# Altium footprint library PcbLib1.PcbLib: 19 footprints (part 1 of 2)
Each footprint in its own frame and in the unit in brackets; x right, y up, seen from the top. Pads: shape width x height; smd on the part's side, far side on the other; paste and mask are expansions set on the pad; w line width, h text height; cw(c..) or ccw(c..) is an arc to the next point about the centre after c.
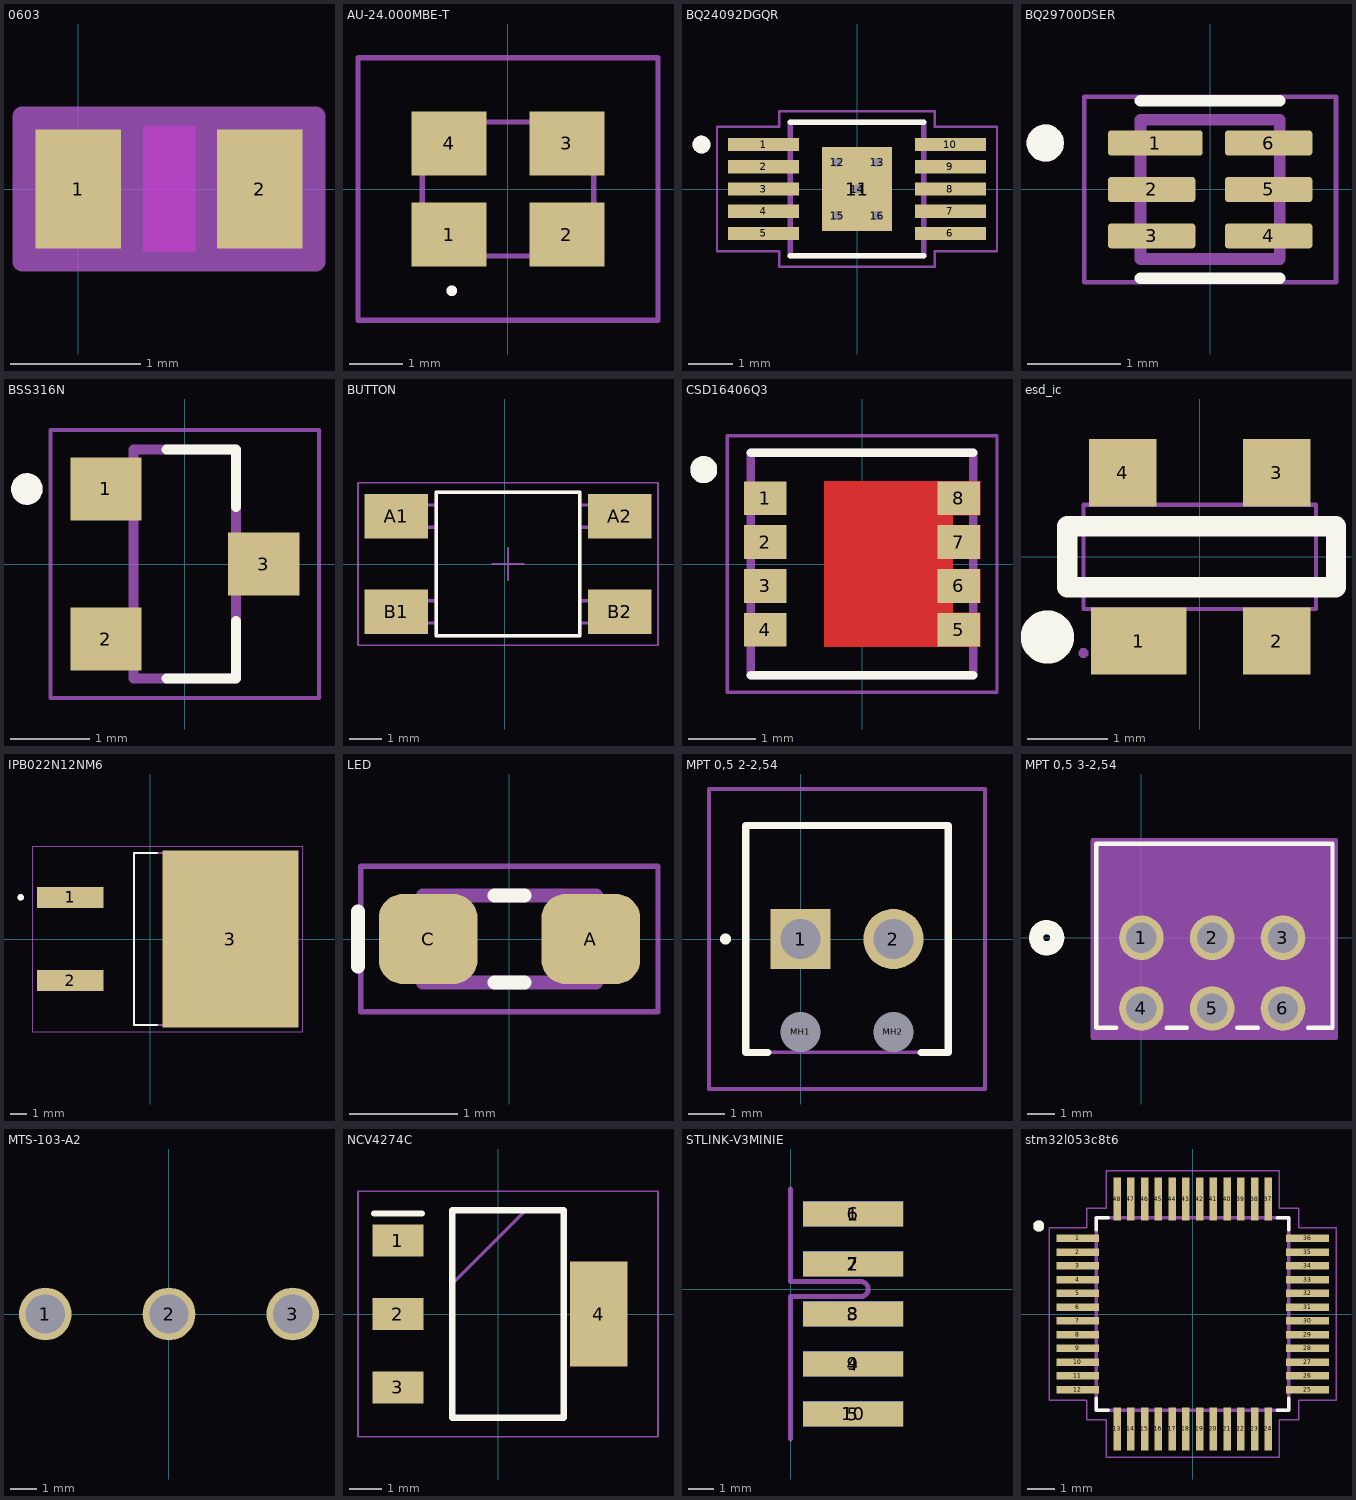
[diagram p0: the footprints below, top view; thin cyan lines are the x and y axes]

## 0603 [mil]
pads (2):
  rect 26x36 smd paste+0 mask+0: 1(0,0) 2(55,0)
Top Layer keep-out:
  region: 19.68,-17 19.68,17 35.43,17 35.43,-17
Keep-Out Layer:
  region: 19.68,-19 19.68,19 35.43,19 35.43,-19
Mechanical 13:
  circle w0: c5,0 r3
  lines w1: -7,-19 -7,19 ; -7,-19 62,-19 ; -7,-19 13,-19 13,19 -7,19 ; -7,-19 -7,19 ; -7,19 62,19 ; 62,-19 62,19 ; 62,-19 62,19 ; 62,-19 42,-19 42,19 62,19
Mechanical 15:
  region: 72,-22 -17,-22 -17,22 72,22
  lines w6: -17,-22 72,-22 72,22 -17,22 -17,-22
3D body "0603_AVX.step": height 35, standoff 0, extent -6.99,-19.02 61.99,19.02

## AU-24.000MBE-T [mm]
pads (4):
  rect 1.4x1.2 smd: 1(-1.1,-0.85) 2(1.1,-0.85) 3(1.1,0.85) 4(-1.1,0.85)
Top Overlay:
  lines w0.1: -1.1,-1.9 cw(c-1.05,-1.9) -1,-1.9 cw(c-1.05,-1.9) -1.1,-1.9
Mechanical 13:
  lines w0.1: -1.6,-1.25 1.6,-1.25 1.6,1.25 -1.6,1.25 -1.6,-1.25
Mechanical 15:
  lines w0.1: -2.8,-2.45 2.8,-2.45 2.8,2.45 -2.8,2.45 -2.8,-2.45
3D body "AU-24.000MBE-T.stp": height 1.2, standoff 0, extent -1.68,-1.33 1.68,1.33

## BQ24092DGQR [mm]
pads (16):
  rect 1.6x0.3 smd paste-0.025 mask+0.05: 1(-2.1,1) 2(-2.1,0.5) 3(-2.1,0) 4(-2.1,-0.5) 5(-2.1,-1) 6(2.1,-1) 7(2.1,-0.5) 8(2.1,0) 9(2.1,0.5) 10(2.1,1)
  rect 1.57x1.88 smd: 11(0,0)
  round 0.4 hole 0.2 mask+0: 12(-0.45,0.6) 13(0.45,0.6) 14(0,0) 15(-0.45,-0.6) 16(0.45,-0.6)
Top Overlay:
  circle w0.2: c-3.5,1 r0.1
  lines w0.127: -1.5,-1.5 1.5,-1.5 ; -1.5,1.5 1.5,1.5
Mechanical 13:
  circle w0.2: c-3.5,1 r0.1
  lines w0.127: -1.5,-1.5 -1.5,1.5 1.5,1.5 1.5,-1.5 -1.5,-1.5
Mechanical 15:
  lines w0.05: -3.15,-1.4 -3.15,1.4 -1.75,1.4 -1.75,1.75 1.75,1.75 1.75,1.4 3.15,1.4 3.15,-1.4 1.75,-1.4 1.75,-1.75 -1.75,-1.75 -1.75,-1.4 -3.15,-1.4
3D body "step_temp.STEP": height 1.1, standoff 0, extent -2.45,-1.5 2.45,1.5

## BQ29700DSER [mm]
pads (6):
  rrect25% 1.02x0.27 smd: 1(-0.59,0.5)
  rrect25% 0.94x0.27 smd: 2(-0.63,0) 3(-0.63,-0.5) 4(0.63,-0.5) 5(0.63,0) 6(0.63,0.5)
Top Overlay:
  circle w0.2: c-1.775,0.5 r0.1
  lines w0.127: -0.75,-0.955 0.75,-0.955 ; -0.75,0.955 0.75,0.955
Mechanical 13:
  circle w0.2: c-1.775,0.5 r0.1
  lines w0.127: -0.75,-0.75 0.75,-0.75 0.75,0.75 -0.75,0.75 -0.75,-0.75
Mechanical 15:
  lines w0.05: -1.355,-1 1.355,-1 1.355,1 -1.355,1 -1.355,-1
3D body "step_temp.STEP": height 0.8, standoff 0, extent -0.75,-0.75 0.75,0.75

## BSS316N [mm]
pads (3):
  rect 0.9x0.8 smd: 1(-1,0.95) 2(-1,-0.95) 3(1,0)
Top Overlay:
  circle w0.2: c-2,0.95 r0.1
  lines w0.127: -0.23,-1.45 0.65,-1.45 0.65,-0.72 ; -0.23,1.45 0.65,1.45 0.65,0.72
Mechanical 13:
  circle w0.2: c-2,0.95 r0.1
  lines w0.127: -0.65,-1.45 -0.65,1.45 0.65,1.45 0.65,-1.45 -0.65,-1.45
Mechanical 15:
  lines w0.05: -1.7,-1.7 -1.7,1.7 1.7,1.7 1.7,-1.7 -1.7,-1.7
3D body "step_temp.STEP": height 1.3, standoff 0, extent -1.3,-1.525 1.3,1.515

## BUTTON [mm]
pads (4):
  rect 2x1.4 smd: A1(-3.4,1.5) A2(3.6,1.5) B1(-3.4,-1.5) B2(3.6,-1.5)
Top Overlay:
  lines w0.1: -2.15,-2.25 2.35,-2.25 2.35,2.25 -2.15,2.25 -2.15,-2.25
Top Courtyard:
  lines w0.05: -4.6,-2.55 4.8,-2.55 4.8,2.55 -4.6,2.55 -4.6,-2.55
Top Component Outline:
  lines w0.1: -2.15,-1.85 -3.65,-1.85 -3.65,-1.15 -2.15,-1.15 ; -2.15,1.15 -3.65,1.15 -3.65,1.85 -2.15,1.85 ; 2.35,-1.85 3.85,-1.85 3.85,-1.15 2.35,-1.15 ; 2.35,1.15 3.85,1.15 3.85,1.85 2.35,1.85 ; -2.15,-2.25 2.35,-2.25 2.35,2.25 -2.15,2.25 -2.15,-2.25
Top Component Center:
  lines w0.05: -0.4,0 0.6,0 ; 0.1,-0.5 0.1,0.5
3D body "430181038816.stp": height 3.8, standoff 0, extent -3.65,-2.25 3.85,2.25

## CSD16406Q3 [mm]
pads (8):
  rect 0.63x0.5 smd paste-1: 1(-1.435,0.975) 2(-1.435,0.325) 3(-1.435,-0.325) 4(-1.435,-0.975)
  rect 0.63x0.5 smd paste-1 mask+0: 5(1.435,-0.975) 6(1.435,-0.325) 7(1.435,0.325) 8(1.435,0.975)
Top Layer:
  region: 1.75,0.725 1.34,0.725 1.34,0.575 1.75,0.575 1.75,0.075 1.34,0.075 1.34,-0.075 1.75,-0.075 1.75,-0.575 1.34,-0.575 1.34,-0.725 1.75,-0.725 1.75,-1.225 -0.56,-1.225 -0.56,1.225 1.75,1.225
Top Overlay:
  circle w0.2: c-2.35,1.4 r0.1
  lines w0.127: -1.65,-1.65 1.65,-1.65 ; -1.65,1.65 1.65,1.65
Top Paste:
  region: 0.985,0.125 -0.46,0.125 -0.46,1.145 0.985,1.145
  region: 1.66,0.155 1.21,0.155 1.21,0.495 1.66,0.495
  region: 1.66,0.805 1.21,0.805 1.21,1.145 1.66,1.145
  region: 1.66,-0.495 1.21,-0.495 1.21,-0.155 1.66,-0.155
  region: 1.66,-1.145 1.21,-1.145 1.21,-0.805 1.66,-0.805
  region: -1.21,-0.495 -1.66,-0.495 -1.66,-0.155 -1.21,-0.155
  region: -1.21,-1.145 -1.66,-1.145 -1.66,-0.805 -1.21,-0.805
  region: -1.21,0.155 -1.66,0.155 -1.66,0.495 -1.21,0.495
  region: -1.21,0.805 -1.66,0.805 -1.66,1.145 -1.21,1.145
  region: 0.985,-1.145 -0.46,-1.145 -0.46,-0.125 0.985,-0.125
Top Solder:
  region: 1.85,-1.325 -0.66,-1.325 -0.66,1.325 1.85,1.325
Mechanical 13:
  circle w0.2: c-2.35,1.4 r0.1
  lines w0.127: -1.65,-1.65 1.65,-1.65 1.65,1.65 -1.65,1.65 -1.65,-1.65
Mechanical 15:
  lines w0.05: -2,-1.9 2,-1.9 2,1.9 -2,1.9 -2,-1.9
3D body "DQG0008A.stp": height 1.1, standoff 0, extent -1.65,-1.65 1.65,1.65

## esd_ic [mil]
pads (4):
  rect 47x33 smd paste+0 mask+2: 1(-29.92,-41.34)
  rect 33x33 smd paste+0 mask+2: 2(37.8,-41.34) 3(37.8,41.34) 4(-37.79,41.34)
Top Overlay:
  circle w15: c-74.79,-39.37 r5.57
  lines w10: -64.96,-14.96 66.93,-14.96 66.93,14.96 -64.96,14.96 -64.96,-14.96
Board Shape:
  circle w7.87: c-31.37,-46.23 r3.94
Mechanical 15:
  region: 28.75,-27.54 44.49,-27.54 44.49,-47.23 28.75,-47.23
  region: 28.75,-25.18 44.49,-25.18 44.49,-27.94 28.75,-27.94
  region: 44.49,27.53 28.75,27.53 28.75,47.21 44.49,47.21
  region: 44.49,25.17 28.75,25.17 28.75,27.92 44.49,27.92
  region: -44.48,47.21 -28.74,47.21 -28.74,27.53 -44.48,27.53
  region: -44.48,27.92 -28.74,27.92 -28.74,25.17 -44.48,25.17
  region: -46.46,-47.25 -46.46,-27.53 -13.39,-27.53 -13.39,-47.25
  region: -46.46,-27.92 -46.46,-25.2 -13.39,-25.2 -13.39,-27.92
  region: -54.72,-47.25 -54.74,-46.29 -56.12,-44.94 -58.05,-44.94 -59.42,-46.29 -59.44,-47.25 -59.42,-48.21 -58.05,-49.56 -56.12,-49.56 -54.74,-48.21
  lines w2: -57.08,-25.59 -57.08,25.59 57.09,25.59 57.09,-25.59 -57.08,-25.59

## IPB022N12NM6 [mm]
pads (3):
  rect 4.05x1.27 smd: 1(-4.887,2.54) 2(-4.887,-2.54)
  rect 8.3x10.8 smd paste-6: 3(4.888,0)
Top Overlay:
  circle w0.2: c-7.912,2.54 r0.1
  lines w0.127: 0.418,-5.25 -0.987,-5.25 -0.987,5.25 0.418,5.25
Top Paste:
  region: 2.938,0.285 1.318,0.285 1.318,1.515 2.938,1.515
  region: 2.938,2.085 1.318,2.085 1.318,3.315 2.938,3.315
  region: 2.938,3.885 1.318,3.885 1.318,5.115 2.938,5.115
  region: 2.938,-1.515 1.318,-1.515 1.318,-0.285 2.938,-0.285
  region: 2.938,-3.315 1.318,-3.315 1.318,-2.085 2.938,-2.085
  region: 2.938,-5.115 1.318,-5.115 1.318,-3.885 2.938,-3.885
  region: 5.698,0.285 4.078,0.285 4.078,1.515 5.698,1.515
  region: 5.698,2.085 4.078,2.085 4.078,3.315 5.698,3.315
  region: 5.698,3.885 4.078,3.885 4.078,5.115 5.698,5.115
  region: 5.698,-1.515 4.078,-1.515 4.078,-0.285 5.698,-0.285
  region: 5.698,-3.315 4.078,-3.315 4.078,-2.085 5.698,-2.085
  region: 5.698,-5.115 4.078,-5.115 4.078,-3.885 5.698,-3.885
  region: 8.458,0.285 6.838,0.285 6.838,1.515 8.458,1.515
  region: 8.458,2.085 6.838,2.085 6.838,3.315 8.458,3.315
  region: 8.458,3.885 6.838,3.885 6.838,5.115 8.458,5.115
  region: 8.458,-1.515 6.838,-1.515 6.838,-0.285 8.458,-0.285
  region: 8.458,-3.315 6.838,-3.315 6.838,-2.085 8.458,-2.085
  region: 8.458,-5.115 6.838,-5.115 6.838,-3.885 8.458,-3.885
Mechanical 13:
  circle w0.2: c-7.912,2.54 r0.1
  lines w0.127: -0.987,-5.25 7.763,-5.25 7.763,5.25 -0.987,5.25 -0.987,-5.25
Mechanical 15:
  lines w0.05: -7.162,-5.65 -7.162,5.65 9.288,5.65 9.288,-5.65 -7.162,-5.65
3D body "step_temp.STEP": height 4.7, standoff 0, extent -6.557,-5.25 8.683,5.25

## LED [mm]
pads (2):
  rrect53% 0.91x0.83 smd: A(0.75,0) C(-0.75,0)
Top Overlay:
  lines w0.127: -1.397,-0.254 -1.397,0.254 ; -0.14,-0.4 0.14,-0.4 ; -0.14,0.4 0.14,0.4
Mechanical 13:
  lines w0.127: -0.8,-0.4 0.8,-0.4 0.8,0.4 -0.8,0.4 -0.8,-0.4
Mechanical 15:
  lines w0.05: -1.37,-0.67 1.37,-0.67 1.37,0.67 -1.37,0.67 -1.37,-0.67
3D body "step_temp.STEP": height 0.7, standoff 0, extent -0.8,-0.4 0.8,0.4

## MPT 0,5 2-2,54 [mm]
pads (4):
  rect 1.65x1.65 hole 1.1: 1(0,0)
  round 1.65 hole 1.1: 2(2.54,0)
  round 0.55 hole 1.1 unplated: MH1(0,-2.54) MH2(2.54,-2.54)
Top Overlay:
  lines w0.2: -0.9,-3.1 -1.5,-3.1 -1.5,3.1 4.04,3.1 4.04,-3.1 3.3,-3.1 ; -2.1,0 ccw(c-2.05,0) -2,0 ; -2.1,0 cw(c-2.05,0) -2,0 ; -2.1,0 ccw(c-2.05,0) -2,0
Mechanical 15:
  lines w0.1: -1.5,-3.1 -1.5,3.1 4.04,3.1 4.04,-3.1 -1.5,-3.1
Mechanical 20:
  lines w0.1: -2.5,-4.1 -2.5,4.1 5.04,4.1 5.04,-4.1 -2.5,-4.1
3D body "MPT 0,5 2-2,54.stp": height 8.5, standoff -3.5, extent -1.53,-3.048 4.07,3.152

## MPT 0,5 3-2,54 [mil]
pads (6):
  round 63 / inner round 60 / far side round 63 hole 43 paste-99999 mask+0: 1(0,0) 2(100,0) 3(200,0) 4(0,-100) 5(100,-100) 6(200,-100)
Top Overlay:
  circle w20: c-134.05,0 r15
  lines w6: -35.46,-127.05 -64.05,-127.05 -64.05,132.95 269.95,132.95 269.95,-127.05 235.46,-127.05 ; 35.46,-127.05 64.54,-127.05 ; 135.46,-127.05 164.54,-127.05
Bottom Overlay:
  circle w20: c-134.05,0 r15
Mechanical 13:
  circle w20: c0,75 r15
  lines w1: -59.05,-122.05 -59.05,127.95 264.95,127.95 264.95,-122.05 -59.05,-122.05
Mechanical 15:
  region: 274.95,137.95 -69.05,137.95 -69.05,-141.5 274.95,-141.5
  lines w6: -69.05,-141.5 274.95,-141.5 274.95,137.95 -69.05,137.95 -69.05,-141.5
3D body "pxc_1725669_09_03_MPT-0-5-3-2-54_3D.stp": height 334.65, standoff -137.8, extent -59.97,-119.91 260.51,124.19

## MTS-103-A2 [mm]
pads (3):
  round 2 hole 1.5: 1(-4.7,0) 2(0,0) 3(4.7,0)
3D body "MTS-1xx-A2-red-OFF.step": height 30.63, standoff -5, extent -6.792,-6 6.6,6

## NCV4274C [mm]
pads (4):
  rect 1.6x1 smd: 1(-3.15,2.3) 2(-3.15,0) 3(-3.15,-2.3)
  rect 1.8x3.3 smd: 4(3.15,0)
Top Overlay:
  lines w0.2: -3.9,3.15 -2.4,3.15 ; -1.45,-3.25 -1.45,3.25 2.05,3.25 2.05,-3.25 -1.45,-3.25
Mechanical 15:
  lines w0.1: -1.45,0.95 0.85,3.25 ; -1.45,-3.25 -1.45,3.25 2.05,3.25 2.05,-3.25 -1.45,-3.25
Mechanical 20:
  lines w0.05: -4.4,-3.85 -4.4,3.85 ; -4.4,-3.85 5,-3.85 ; -4.4,-3.85 -4.4,3.85 ; -4.4,-3.85 5,-3.85 ; -4.4,3.85 5,3.85 ; -4.4,3.85 5,3.85 ; 5,-3.85 5,3.85 ; 5,-3.85 5,3.85
3D body "NCV4274C (2).STEP": height 1.65, standoff -0.03, extent -3.056,-3.293 3.904,3.207

## STLINK-V3MINIE [mm]
pads (10):
  rect 4x1 smd paste-0.025 mask+0.05: 1(2.5,3) 2(2.5,1) 3(2.5,-1) 4(2.5,-3) 5(2.5,-5)
  rect 4x1 smd far side paste-0.025 mask+0.05: 6(2.504,3.01) 7(2.504,1.01) 8(2.504,-0.99) 9(2.504,-2.99) 10(2.504,-4.99)
Mechanical 1:
  lines w0.2: 0,-6 0,-0.3 2.8,-0.3 ccw(c2.8,0) 3.1,0 ccw(c2.8,0) 2.8,0.3 0,0.3 0,4
3D body "009159010061916.stp": height 2.3, standoff -2.7, extent -6.575,-6.05 3.425,3.95

## stm32l053c8t6 [mm]
pads (48):
  rrect7% 1.56x0.28 smd: 1(-4.18,2.75) 2(-4.18,2.25) 3(-4.18,1.75) 4(-4.18,1.25) 5(-4.18,0.75) 6(-4.18,0.25) 7(-4.18,-0.25) 8(-4.18,-0.75) 9(-4.18,-1.25) 10(-4.18,-1.75) 11(-4.18,-2.25) 12(-4.18,-2.75) 25(4.18,-2.75) 26(4.18,-2.25) 27(4.18,-1.75) 28(4.18,-1.25) 29(4.18,-0.75) 30(4.18,-0.25) 31(4.18,0.25) 32(4.18,0.75) 33(4.18,1.25) 34(4.18,1.75) 35(4.18,2.25) 36(4.18,2.75)
  rrect7% 0.28x1.56 smd: 13(-2.75,-4.18) 14(-2.25,-4.18) 15(-1.75,-4.18) 16(-1.25,-4.18) 17(-0.75,-4.18) 18(-0.25,-4.18) 19(0.25,-4.18) 20(0.75,-4.18) 21(1.25,-4.18) 22(1.75,-4.18) 23(2.25,-4.18) 24(2.75,-4.18) 37(2.75,4.18) 38(2.25,4.18) 39(1.75,4.18) 40(1.25,4.18) 41(0.75,4.18) 42(0.25,4.18) 43(-0.25,4.18) 44(-0.75,4.18) 45(-1.25,4.18) 46(-1.75,4.18) 47(-2.25,4.18) 48(-2.75,4.18)
Top Overlay:
  circle w0.2: c-5.6,3.2 r0.1
  lines w0.127: -3.5,-3.07 -3.5,-3.5 -3.07,-3.5 ; -3.5,3.07 -3.5,3.5 -3.07,3.5 ; 3.07,-3.5 3.5,-3.5 3.5,-3.07 ; 3.07,3.5 3.5,3.5 3.5,3.07
Mechanical 13:
  circle w0.2: c-5.6,3.2 r0.1
  lines w0: -3.505,0.635 -3.505,0.864
  lines w0.127: -3.5,-3.5 -3.5,3.5 3.5,3.5 3.5,-3.5 -3.5,-3.5
Mechanical 15:
  lines w0.05: -5.21,-3.14 -3.85,-3.14 -3.85,-3.85 -3.14,-3.85 -3.14,-5.21 3.14,-5.21 3.14,-3.85 3.85,-3.85 3.85,-3.14 5.21,-3.14 5.21,3.14 3.85,3.14 3.85,3.85 3.14,3.85 3.14,5.21 -3.14,5.21 -3.14,3.85 -3.85,3.85 -3.85,3.14 -5.21,3.14 -5.21,-3.14
3D body "User Library-STM32L053C8T6.STEP": height 1.4, standoff -0.15, extent -4.5,-4.5 4.5,4.5